# Altium footprint library THX208_HF-Switching_IC.PcbLib: 1 footprints
Each footprint in its own frame and in the unit in brackets; x right, y up, seen from the top. Pads: shape width x height; smd on the part's side, far side on the other; paste and mask are expansions set on the pad; w line width, h text height; cw(c..) or ccw(c..) is an arc to the next point about the centre after c.
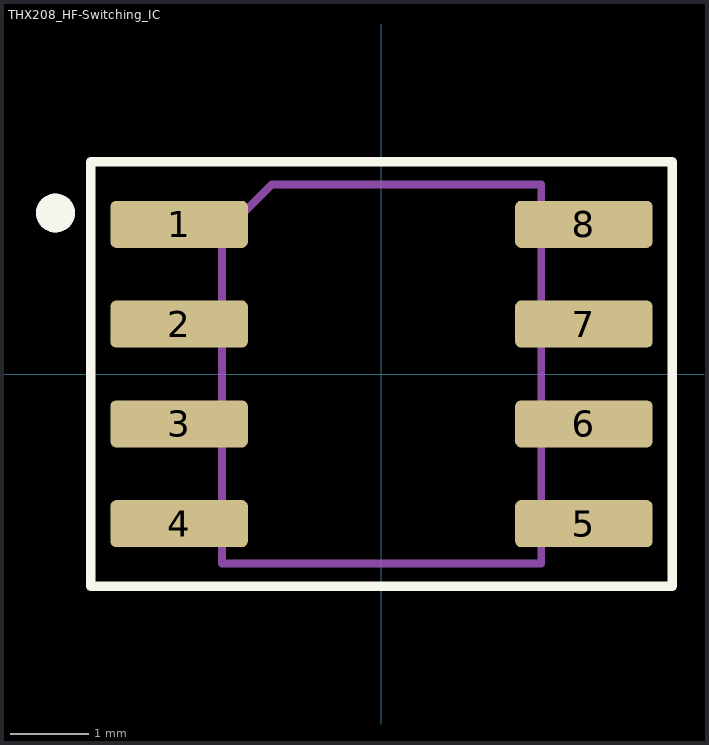
[diagram p0: the footprint, top view; thin cyan lines are the x and y axes]

## THX208_HF-Switching_IC [mm] "THX208_HF-Switching_IC"
pads (10):
  rrect25% 1.75x0.6 smd: 1(-2.575,1.905) 2(-2.575,0.635) 3(-2.575,-0.635) 4(-2.575,-1.905) 5(2.575,-1.905) 6(2.575,-0.635) 7(2.575,0.635) 8(2.575,1.905)
  round 0.5 on Top Overlay: ""(-4.15,2.05)
  round 0.5 on Mech1: ""(-4.15,2.05)
Top Overlay:
  lines w0.12: -3.7,-2.7 3.7,-2.7 3.7,2.7 -3.7,2.7 -3.7,-2.7
Mechanical 1:
  lines w0.1: -3.7,-2.7 -3.7,2.7 3.7,2.7 3.7,-2.7 -3.7,-2.7 ; -2.031,-2.413 -2.031,1.778 -1.396,2.413 2.033,2.413 2.033,-2.413 -2.031,-2.413
  text ".Designator" at -0.45,0.562 h1.52
Mechanical 15:
  text "+" at -0.666,-1 h2
3D body "SOP-8.STEP": height 1.87, standoff 0, extent -3.11,-2.5 3.11,2.5